# EAGLE library part 115B-AAA0-R (library hosho)
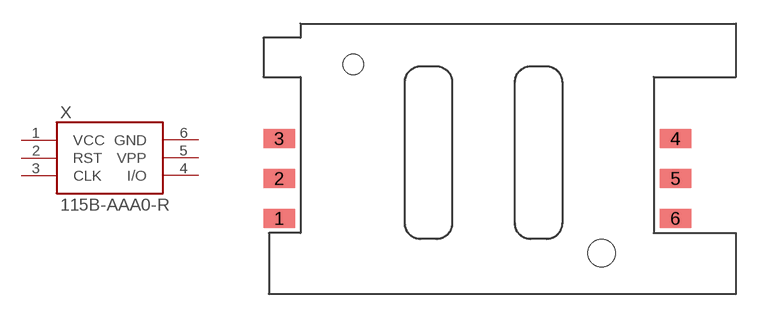
[diagram p9: symbol with the pads of 115B-AAA0-R; footprint 115B-AAA0-R]

Designator prefix X

## 115B-AAA0-R115B-AAA0-R  [115B-AAA0-R]
1  VCC
2  RST
3  CLK
4  I/O
5  VPP
6  GND

## Footprint 115B-AAA0-R (pad centres in mm)
smd 2 x 1.2: 1 -13,-3.19; 2 -13,-0.65; 3 -13,1.89; 4 12.2,1.89; 5 12.2,-0.65; 6 12.2,-3.19
hole 1.75 at 7.5,-5.38
hole 1.3 at -8.3,6.62